# Altium footprint library supercap.PCBLIB: 487 footprints (part 20 of 31)
Each footprint in its own frame and in the unit in brackets; x right, y up, seen from the top. Pads: shape width x height; smd on the part's side, far side on the other; paste and mask are expansions set on the pad; w line width, h text height; cw(c..) or ccw(c..) is an arc to the next point about the centre after c.
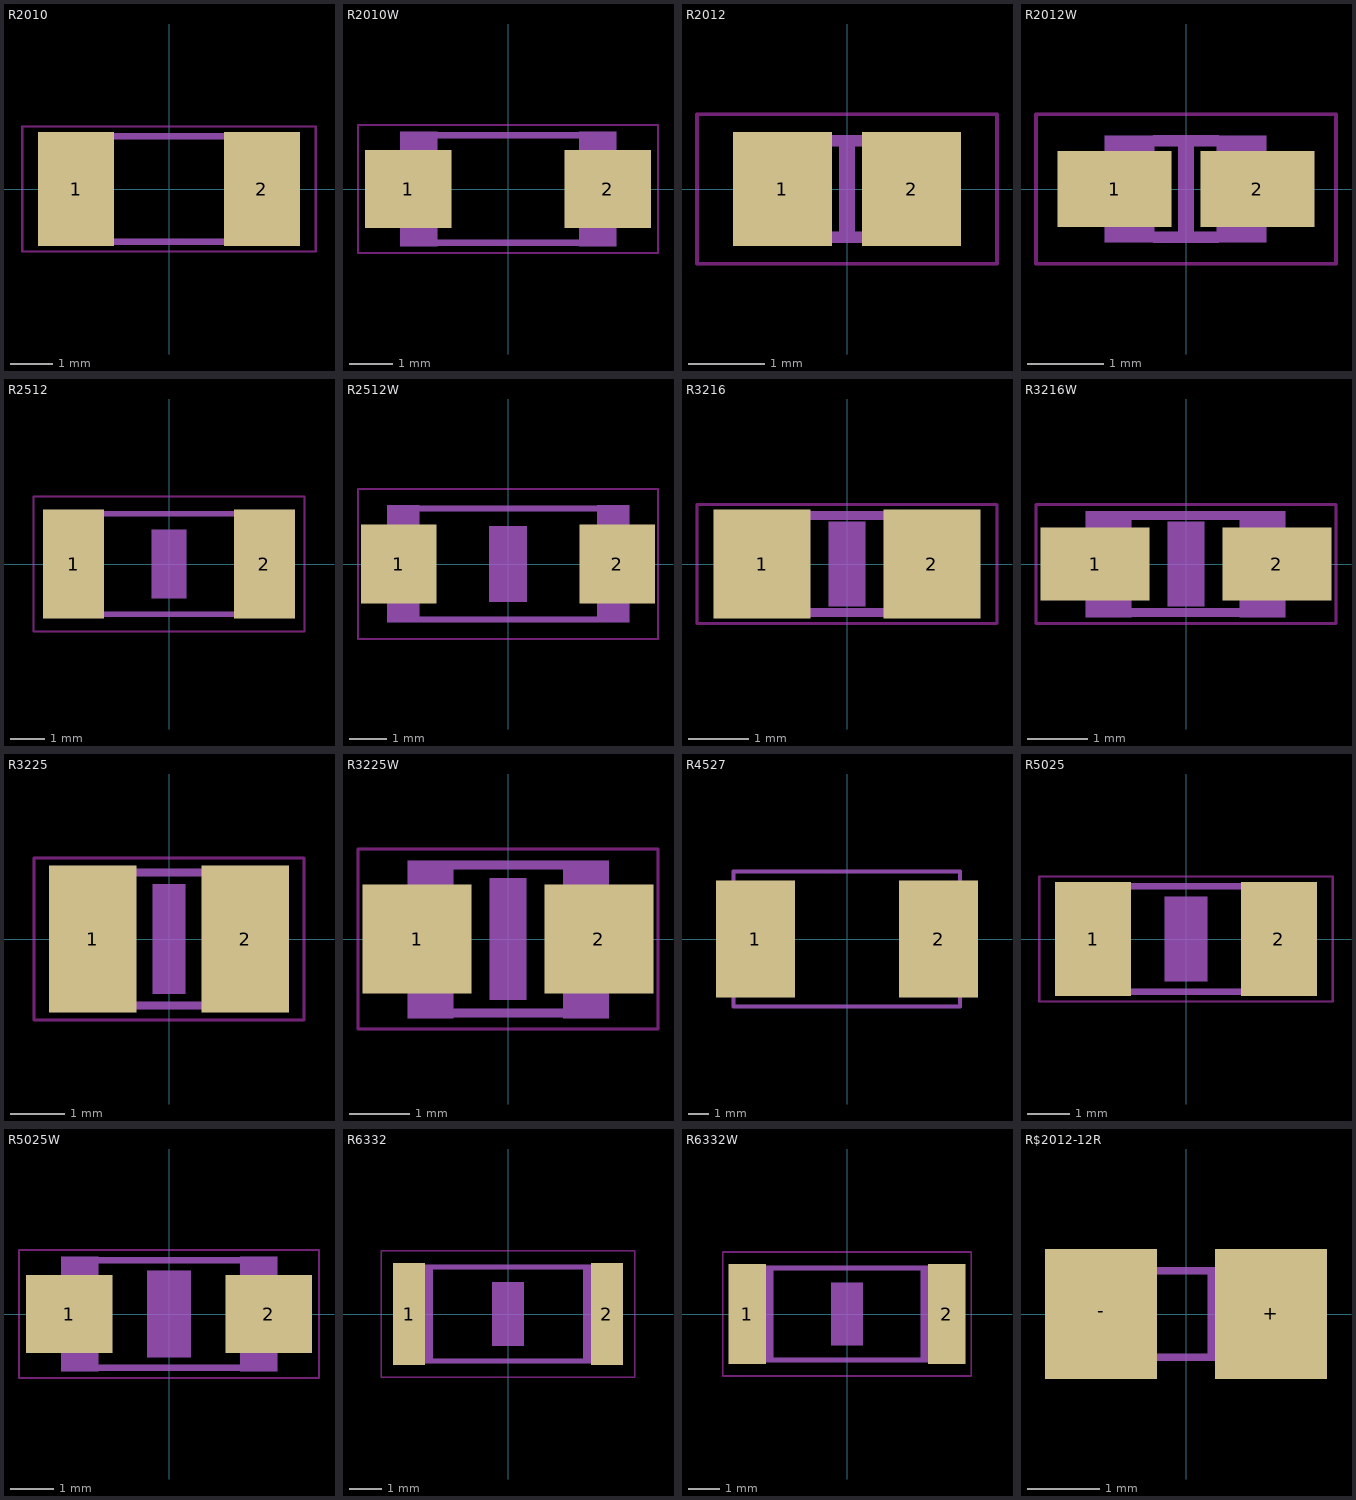
[diagram p19: the footprints below, top view; thin cyan lines are the x and y axes]

## R2010 [mil]
pads (2):
  rect 70.87x106.3 smd: 1(-86.61,0) 2(86.61,0)
Top keep-out:
  lines w2: -136.73,-58.39 136.73,-58.39 136.73,58.39 -136.73,58.39 -136.73,-58.39
tDocu:
  region: -98,-52 -98,52.33 -64.54,52.33 -64.54,-52
  region: 65,-52 65,52.33 98.46,52.33 98.46,-52
  lines w6: -65.43,49.02 65.43,49.02 ; -64.45,-49.02 66.42,-49.02

## R2010W [mm]
pads (2):
  rect 2x1.8 smd: 1(-2.311,0) 2(2.311,0)
Top keep-out:
  lines w0.051: -3.473,-1.483 3.473,-1.483 3.473,1.483 -3.473,1.483 -3.473,-1.483
tDocu:
  region: -2.489,-1.321 -2.489,1.329 -1.639,1.329 -1.639,-1.321
  region: 1.651,-1.321 1.651,1.329 2.501,1.329 2.501,-1.321
  lines w0.152: -1.662,1.245 1.662,1.245 ; -1.637,-1.245 1.687,-1.245

## R2012 [mil]
pads (2):
  rect 51.18x59.06 smd: 1(-33.46,0) 2(33.46,0)
Top keep-out:
  lines w2: -77.68,-38.7 77.68,-38.7 77.68,38.7 -77.68,38.7 -77.68,-38.7
tDocu:
  region: 16,-27.5 16,27.62 41.59,27.62 41.59,-27.5
  region: -42,-27.5 -42,27.62 -16.41,27.62 -16.41,-27.5
  lines w6: -16.14,-25 16.14,-25 ; -16.14,25 16.14,25
tGlue:
  region: -3.94,-23.62 -3.94,23.62 3.94,23.62 3.94,-23.62

## R2012W [mm]
pads (2):
  rect 1.5x1 smd: 1(-0.94,0) 2(0.94,0)
Top keep-out:
  lines w0.051: -1.973,-0.983 1.973,-0.983 1.973,0.983 -1.973,0.983 -1.973,-0.983
tDocu:
  region: 0.406,-0.699 0.406,0.702 1.056,0.702 1.056,-0.699
  region: -1.067,-0.699 -1.067,0.702 -0.417,0.702 -0.417,-0.699
  lines w0.152: -0.41,-0.635 0.41,-0.635 ; -0.41,0.635 0.41,0.635
tGlue:
  region: -0.1,-0.6 -0.1,0.6 0.1,0.6 0.1,-0.6

## R2512 [mil]
pads (2):
  rect 70.87x125.98 smd: 1(-110.24,0) 2(110.24,0)
Top keep-out:
  lines w2: -156.42,-78.07 156.42,-78.07 156.42,78.07 -156.42,78.07 -156.42,-78.07
tDocu:
  region: -126,-61 -126,61.05 -92.54,61.05 -92.54,-61
  region: 93,-61 93,61.05 126.46,61.05 126.46,-61
  lines w6: -92.99,-57.99 93.98,-57.99 ; -92.99,57.99 93.98,57.99
tGlue:
  region: -19.69,-39.37 -19.69,39.37 19.69,39.37 19.69,-39.37

## R2512W [mm]
pads (2):
  rect 2x2.1 smd: 1(-2.896,0) 2(2.896,0)
Top keep-out:
  lines w0.051: -3.973,-1.983 3.973,-1.983 3.973,1.983 -3.973,1.983 -3.973,-1.983
tDocu:
  region: -3.2,-1.549 -3.2,1.551 -2.351,1.551 -2.351,-1.549
  region: 2.362,-1.549 2.362,1.551 3.212,1.551 3.212,-1.549
  lines w0.152: -2.362,-1.473 2.387,-1.473 ; -2.362,1.473 2.387,1.473
tGlue:
  region: -0.5,-1 -0.5,1 0.5,1 0.5,-1

## R3216 [mil]
pads (2):
  rect 62.99x70.87 smd: 1(-55.12,0) 2(55.12,0)
Top keep-out:
  lines w2: -97.36,-38.7 97.36,-38.7 97.36,38.7 -97.36,38.7 -97.36,-38.7
tDocu:
  region: -65,-34.5 -65,34.4 -35.47,34.4 -35.47,-34.5
  region: 35,-34.5 35,34.4 64.53,34.4 64.53,-34.5
  lines w6: -35.94,-31.5 34.96,-31.5 ; -35.94,31.5 34.96,31.5
tGlue:
  region: -11.81,-27.56 -11.81,27.56 11.81,27.56 11.81,-27.56

## R3216W [mil]
pads (2):
  rect 70.87x47.24 smd: 1(-59.02,0) 2(59.02,0)
Top keep-out:
  lines w2: -97.36,-38.7 97.36,-38.7 97.36,38.7 -97.36,38.7 -97.36,-38.7
tDocu:
  region: -65,-34.5 -65,34.4 -35.47,34.4 -35.47,-34.5
  region: 35,-34.5 35,34.4 64.53,34.4 64.53,-34.5
  lines w6: -35.94,-31.5 34.96,-31.5 ; -35.94,31.5 34.96,31.5
tGlue:
  region: -11.81,-27.56 -11.81,27.56 11.81,27.56 11.81,-27.56

## R3225 [mil]
pads (2):
  rect 62.99x106.3 smd: 1(-55.12,0) 2(55.12,0)
Top keep-out:
  lines w2: -97.36,-58.39 97.36,-58.39 97.36,58.39 -97.36,58.39 -97.36,-58.39
tDocu:
  region: -65,-51.5 -65,50.86 -35.47,50.86 -35.47,-51.5
  region: 36,-51.5 36,50.86 65.53,50.86 65.53,-51.5
  lines w6: -35.94,-47.99 36.97,-47.99 ; -35.94,47.99 36.97,47.99
tGlue:
  region: -11.81,-39.37 -11.81,39.37 11.81,39.37 11.81,-39.37

## R3225W [mil]
pads (2):
  rect 70.87x70.87 smd: 1(-59.02,0) 2(59.02,0)
Top keep-out:
  lines w2: -97.36,-58.39 97.36,-58.39 97.36,58.39 -97.36,58.39 -97.36,-58.39
tDocu:
  region: -65,-51.5 -65,50.86 -35.47,50.86 -35.47,-51.5
  region: 36,-51.5 36,50.86 65.53,50.86 65.53,-51.5
  lines w6: -35.94,-47.99 36.97,-47.99 ; -35.94,47.99 36.97,47.99
tGlue:
  region: -11.81,-39.37 -11.81,39.37 11.81,39.37 11.81,-39.37

## R4527 [mil]
pads (2):
  rect 155.12x229.92 smd: 1(-180.12,0) 2(180.12,0)
tDocu:
  lines w8: -223.43,-132.87 -223.43,132.87 ; 222.44,-132.87 222.44,132.87
tPlace:
  lines w8: -223.43,-132.87 222.44,-132.87 ; -223.43,132.87 222.44,132.87

## R5025 [mil]
pads (2):
  rect 70.87x106.3 smd: 1(-86.61,0) 2(86.61,0)
Top keep-out:
  lines w2: -136.73,-58.39 136.73,-58.39 136.73,58.39 -136.73,58.39 -136.73,-58.39
tDocu:
  region: -98,-52 -98,52.33 -64.54,52.33 -64.54,-52
  region: 65,-52 65,52.33 98.46,52.33 98.46,-52
  lines w6: -65.43,49.02 65.43,49.02 ; -64.45,-49.02 66.42,-49.02
tGlue:
  region: -19.69,-39.37 -19.69,39.37 19.69,39.37 19.69,-39.37

## R5025W [mm]
pads (2):
  rect 2x1.8 smd: 1(-2.311,0) 2(2.311,0)
Top keep-out:
  lines w0.051: -3.473,-1.483 3.473,-1.483 3.473,1.483 -3.473,1.483 -3.473,-1.483
tDocu:
  region: -2.489,-1.321 -2.489,1.329 -1.639,1.329 -1.639,-1.321
  region: 1.651,-1.321 1.651,1.329 2.501,1.329 2.501,-1.321
  lines w0.152: -1.662,1.245 1.662,1.245 ; -1.637,-1.245 1.687,-1.245
tGlue:
  region: -0.5,-1 -0.5,1 0.5,1 0.5,-1

## R6332 [mm]
pads (2):
  rect 1x3.2 smd: 1(-3.1,0) 2(3.1,0)
Top keep-out:
  lines w0.051: -3.973,-1.983 3.973,-1.983 3.973,1.983 -3.973,1.983 -3.973,-1.983
tDocu:
  region: -3.2,-1.549 -3.2,1.551 -2.351,1.551 -2.351,-1.549
  region: 2.362,-1.549 2.362,1.551 3.212,1.551 3.212,-1.549
  lines w0.152: -2.362,-1.473 2.387,-1.473 ; -2.362,1.473 2.387,1.473
tGlue:
  region: -0.5,-1 -0.5,1 0.5,1 0.5,-1

## R6332W [mil]
pads (2):
  rect 47.24x125.98 smd: 1(-125.83,0) 2(125.83,0)
Top keep-out:
  lines w2: -156.42,-78.07 156.42,-78.07 156.42,78.07 -156.42,78.07 -156.42,-78.07
tDocu:
  region: -126,-61 -126,61.05 -92.54,61.05 -92.54,-61
  region: 93,-61 93,61.05 126.46,61.05 126.46,-61
  lines w6: -92.99,-57.99 93.98,-57.99 ; -92.99,57.99 93.98,57.99
tGlue:
  region: -19.69,-39.37 -19.69,39.37 19.69,39.37 19.69,-39.37

## R$2012-12R [mm]
pads (2):
  rect 1.55x1.8 smd: +(1.175,0) -(-1.175,0)
tDocu:
  region: -1,-0.45 -1,0.45 -0.875,0.45 -0.875,-0.45
  region: 0.875,-0.45 0.875,0.45 1,0.45 1,-0.45
  region: 0.3,-0.625 0.3,0.625 0.5,0.625 0.5,-0.625
  lines w0.102: -0.85,-0.6 0.85,-0.6 0.85,0.6 -0.85,0.6 -0.85,-0.6